# Altium schematic symbol library KHOEMACH_SCHLIB.SchLib: 28 symbols
Pins are listed as number, name and electrical type; pins without a type are passive.

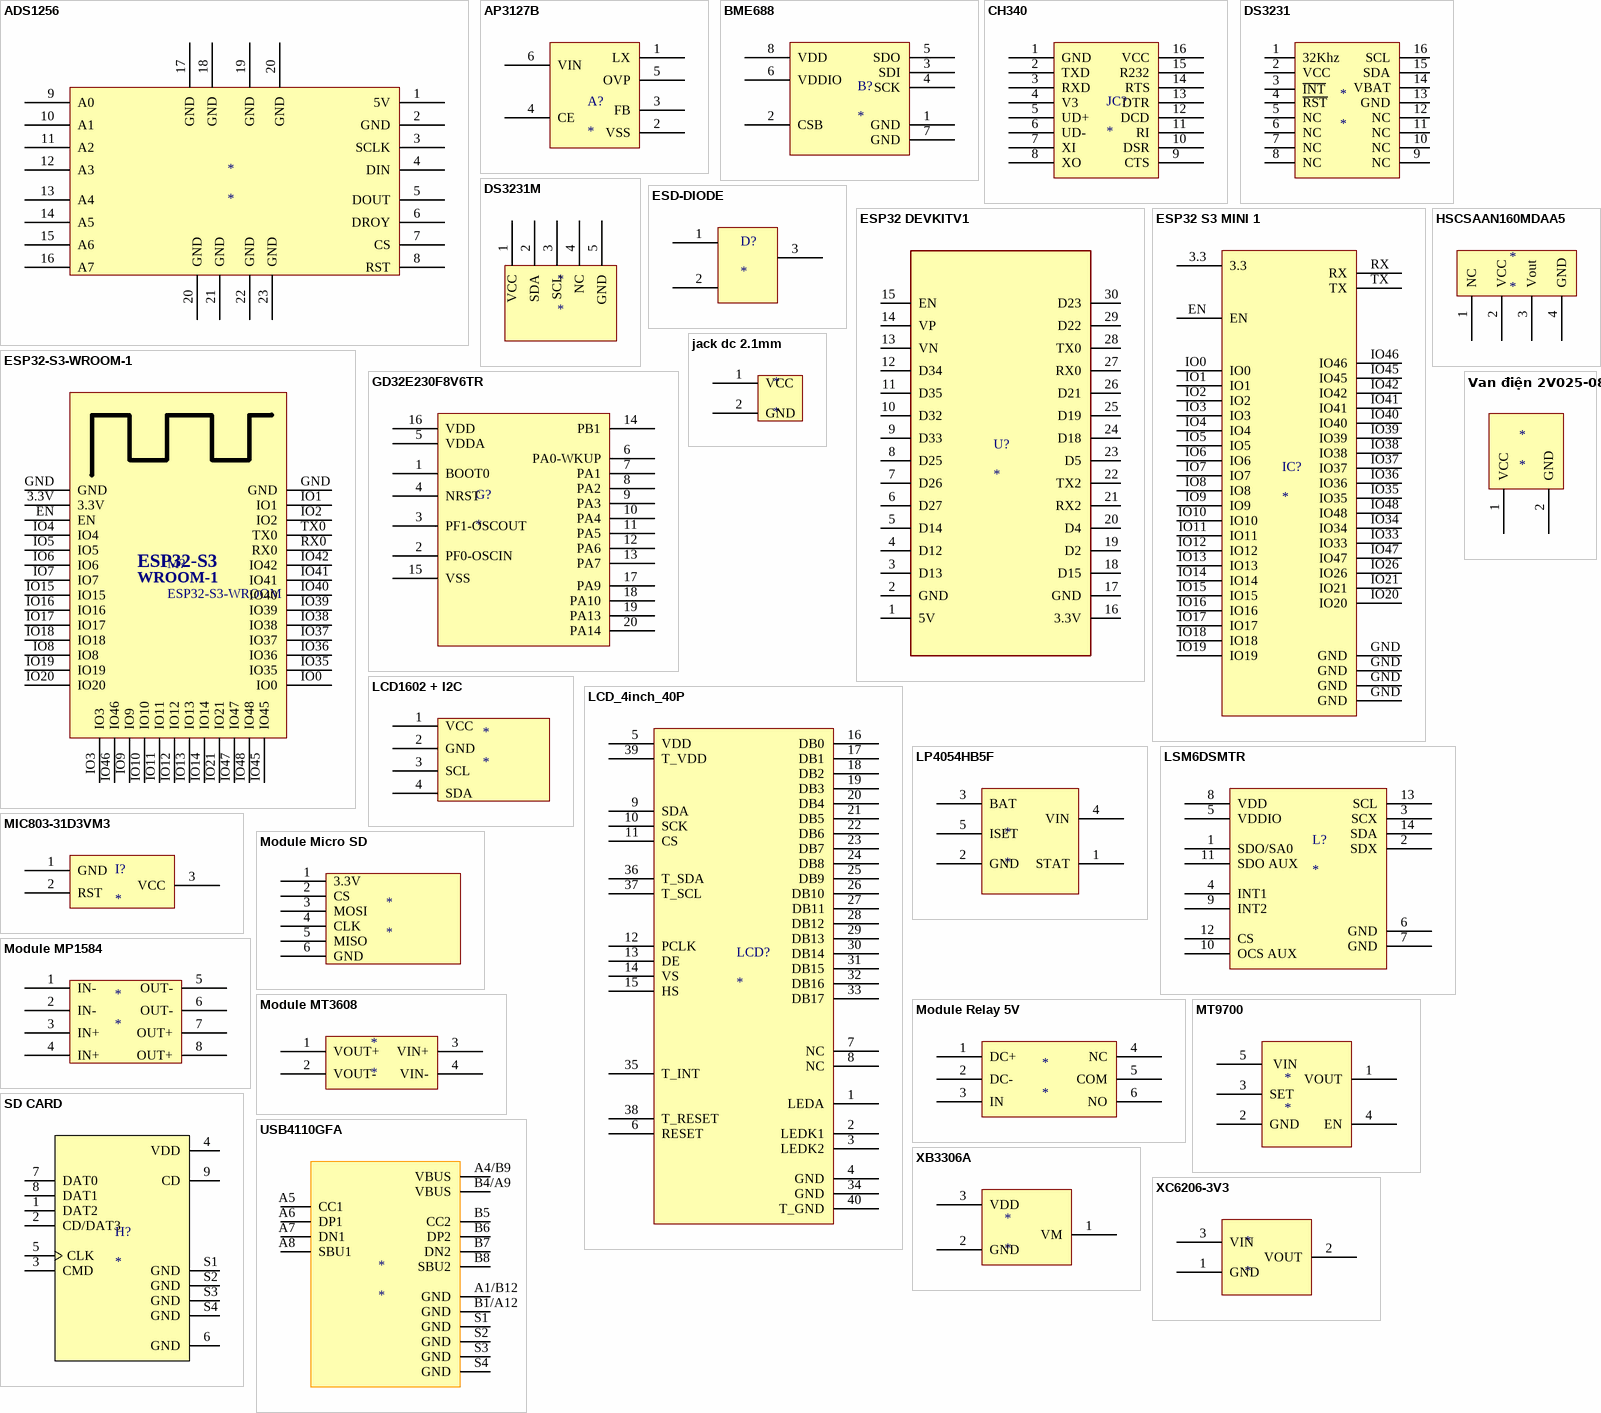
[diagram p0: symbols ADS1256 to XC6206-3V3]

## ADS1256
designator *
footprint ADS1256
pins: 1 5V, 2 GND, 3 SCLK, 4 DIN, 5 DOUT, 6 DROY, 7 CS, 8 RST, 9 A0, 10 A1, 11 A2, 12 A3, 13 A4, 14 A5, 15 A6, 16 A7, 17 GND, 18 GND, 19 GND, 20 GND, 20 GND, 21 GND, 22 GND, 23 GND

## AP3127B
designator A?
S0T-23-6L
footprint AP3127B (SOT23, 6-Leads, Body 2,92x2,80mm, Pitch 0,95mm, IPC Medium Density)
pins: 1 LX, 2 VSS, 3 FB, 4 CE, 5 OVP, 6 VIN

## BME688
designator B?
footprint BME688
pins: 1 GND, 2 CSB, 3 SDI, 4 SCK, 5 SDO, 6 VDDIO, 7 GND, 8 VDD

## CH340
designator JC?
footprint ch340c (chip)
pins: 1 GND, 2 TXD, 3 RXD, 4 V3, 5 UD+, 6 UD-, 7 XI, 8 XO, 9 CTS, 10 DSR, 11 RI, 12 DCD, 13 DTR, 14 RTS, 15 R232, 16 VCC

## DS3231
designator *
footprint DS3231
pins: 1 32Khz (power), 2 VCC (power), 3 ~{INT} (power), 4 ~{RST} (power), 5 NC (power), 6 NC (power), 7 NC (power), 8 NC (power), 9 NC (power), 10 NC (power), 11 NC (power), 12 NC (power), 13 GND (power), 14 VBAT (power), 15 SDA (power), 16 SCL (power)

## DS3231M
designator *
footprint Module DS3231M
pins: 1 VCC, 2 SDA, 3 SCL, 4 NC, 5 GND

## ESD-DIODE
designator D?
footprint ESD-DIODE (CESDBLC5V0AP-SOT23)
pins: 1, 2, 3

## ESP32 DEVKITV1
designator U?
MF: Espressif Systems; MP: ESP32 NODEMCU; SnapEDA_Link: https://www.snapeda.com/parts/ESP32%20NODEMCU/Espressif+Systems/view-part/?ref=snap; Package: Package; Value: *; Check_prices: https://www.snapeda.com/parts/ESP32%20NODEMCU/Espressif+Systems/view-part/?ref=eda
footprint ESP32 DEVKITV1
pins: 1 5V (power), 2 GND (power), 3 D13 (power), 4 D12 (power), 5 D14 (power), 6 D27 (power), 7 D26 (power), 8 D25 (power), 9 D33 (power), 10 D32 (power), 11 D35 (power), 12 D34 (power), 13 VN (power), 14 VP (power), 15 EN (power), 16 3.3V (power), 17 GND (power), 18 D15 (power), 19 D2 (power), 20 D4 (power), 21 RX2 (power), 22 TX2 (power), 23 D5 (power), 24 D18 (power), 25 D19 (power), 26 D21 (power), 27 RX0 (power), 28 TX0 (power), 29 D22 (power), 30 D23 (power)

## ESP32 S3 MINI 1
designator IC?
footprint ESP32 S3 MINI1
pins: 3.3, EN, GND, GND, GND, GND, IO0, IO1, IO2, IO3, IO4, IO5, IO6, IO7, IO8, IO9, IO10, IO11, IO12, IO13, IO14, IO15, IO16, IO17, IO18, IO19, IO20, IO21, IO26, IO33, IO34, IO35, IO36, IO37, IO38, IO39, IO40, IO41, IO42, IO45, IO46, IO47, IO48, RX, TX

## ESP32-S3-WROOM-1
designator M?, comment ESP32-S3-WROOM
Datasheet: https://www.espressif.com/sites/default/files/documentation/esp32-s3-wroom-1_wroom-1u_datasheet_en.pdf
footprint ESP32-S3-WROOM-1
pins: 3.3V, EN, GND, GND, IO0, IO1, IO2, IO3, IO4, IO5, IO6, IO7, IO8, IO9, IO10, IO11, IO12, IO13, IO14, IO15, IO16, IO17, IO18, IO19, IO20, IO21, IO35, IO36, IO37, IO38, IO39, IO40, IO41, IO42, IO45, IO46, IO47, IO48, RX0, TX0
text: ESP32-S3; WROOM-1

## GD32E230F8V6TR
designator G?
GD32E230Fx TSSOP20 pin definitions
footprint GD32E230F8V6TR (TSOP, 20-Leads, Body 6,50x4,40mm, Pitch 0,65mm, IPC Medium Density)
pins: 1 BOOT0, 2 PF0-OSCIN, 3 PF1-OSCOUT, 4 NRST, 5 VDDA, 6 PA0-WKUP, 7 PA1, 8 PA2, 9 PA3, 10 PA4, 11 PA5, 12 PA6, 13 PA7, 14 PB1, 15 VSS, 16 VDD, 17 PA9, 18 PA10, 19 PA13, 20 PA14

## HSCSAAN160MDAA5
designator *
footprint HSCSAAN160MDAA5
pins: 1 NC, 2 VCC, 3 Vout, 4 GND

## jack dc 2.1mm
designator *
footprint jack  dc 2.1mm
pins: 1 VCC, 2 GND

## LCD1602 + I2C
designator *
LCD; MF: Espressif Systems; MP: ESP32 NODEMCU; SnapEDA_Link: https://www.snapeda.com/parts/ESP32%20NODEMCU/Espressif+Systems/view-part/?ref=snap; Package: Package; Value: *; Check_prices: https://www.snapeda.com/parts/ESP32%20NODEMCU/Espressif+Systems/view-part/?ref=eda
footprint lcd 1602 + i2c
pins: 1 VCC, 2 GND, 3 SCL, 4 SDA

## LCD_4inch_40P
designator LCD?
footprint LCD_40P_4inch
pins: 1 LEDA, 2 LEDK1, 3 LEDK2, 4 GND, 5 VDD, 6 RESET, 7 NC, 8 NC, 9 SDA, 10 SCK, 11 CS, 12 PCLK, 13 DE, 14 VS, 15 HS, 16 DB0, 17 DB1, 18 DB2, 19 DB3, 20 DB4, 21 DB5, 22 DB6, 23 DB7, 24 DB8, 25 DB9, 26 DB10, 27 DB11, 28 DB12, 29 DB13, 30 DB14, 31 DB15, 32 DB16, 33 DB17, 34 GND, 35 T_INT, 36 T_SDA, 37 T_SCL, 38 T_RESET, 39 T_VDD, 40 T_GND

## LP4054HB5F
designator *
footprint LP4054HB5F (SOT23-5)
pins: 1 STAT, 2 GND, 3 BAT, 4 VIN, 5 ISET

## LSM6DSMTR
designator L?
footprint LSM6DSMTR
pins: 1 SDO/SA0, 2 SDX, 3 SCX, 4 INT1, 5 VDDIO, 6 GND, 7 GND, 8 VDD, 9 INT2, 10 OCS AUX, 11 SDO AUX, 12 CS, 13 SCL, 14 SDA

## MIC803-31D3VM3
designator I?
footprint MIC803-31D3VM3
pins: 1 GND, 2 RST, 3 VCC

## Module Micro SD
designator *
footprint Module Micro SD
pins: 1 3.3V, 2 CS, 3 MOSI, 4 CLK, 5 MISO, 6 GND

## Module MP1584
designator *
MF: Espressif Systems; MP: ESP32 NODEMCU; SnapEDA_Link: https://www.snapeda.com/parts/ESP32%20NODEMCU/Espressif+Systems/view-part/?ref=snap; Package: Package; Value: *; Check_prices: https://www.snapeda.com/parts/ESP32%20NODEMCU/Espressif+Systems/view-part/?ref=eda
footprint module mP1584
pins: 1 IN-, 2 IN-, 3 IN+, 4 IN+, 5 OUT-, 6 OUT-, 7 OUT+, 8 OUT+

## Module MT3608
designator *
MF: Espressif Systems; MP: ESP32 NODEMCU; SnapEDA_Link: https://www.snapeda.com/parts/ESP32%20NODEMCU/Espressif+Systems/view-part/?ref=snap; Package: Package; Value: *; Check_prices: https://www.snapeda.com/parts/ESP32%20NODEMCU/Espressif+Systems/view-part/?ref=eda
footprint module mt3608
pins: 1 VOUT+, 2 VOUT-, 3 VIN+, 4 VIN-

## Module Relay 5V
designator *
footprint Module Relay 5V
pins: 1 DC+, 2 DC-, 3 IN, 4 NC, 5 COM, 6 NO

## MT9700
designator *
footprint MT9700
pins: 1 VOUT, 2 GND, 3 SET, 4 EN, 5  VIN

## SD CARD
designator H?
MEM2075-00-140-01-A
footprint SD CARD
pins: 1 DAT2, 2 CD/DAT3, 3 CMD, 4 VDD (power), 5 CLK, 6 GND (power), 7 DAT0, 8 DAT1, 9 CD, S1 GND, S2 GND, S3 GND, S4 GND

## USB4110GFA
designator *
footprint USB4110GFA
pins: A1/B12 GND (power), A4/B9 VBUS (power), A5 CC1, A6 DP1, A7 DN1, A8 SBU1, B1/A12 GND (power), B4/A9 VBUS (power), B5 CC2, B6 DP2, B7 DN2, B8 SBU2, S1 GND (power), S2 GND (power), S3 GND (power), S4 GND (power)

## Van điện 2V025-08
designator *
footprint Van 2V025-08
pins: 1 VCC, 2 GND

## XB3306A
designator *
footprint XB3306A
pins: 1  VM, 2 GND, 3 VDD

## XC6206-3V3
designator *
footprint XC6206-3V3 (SOT23-3)
pins: 1 GND, 2 VOUT, 3 VIN